# EAGLE library part TPIC6C595 (library innove-ic-logic)
Power Logic 8-bit SHIFT REGISTER, output latch; Open drain outputs
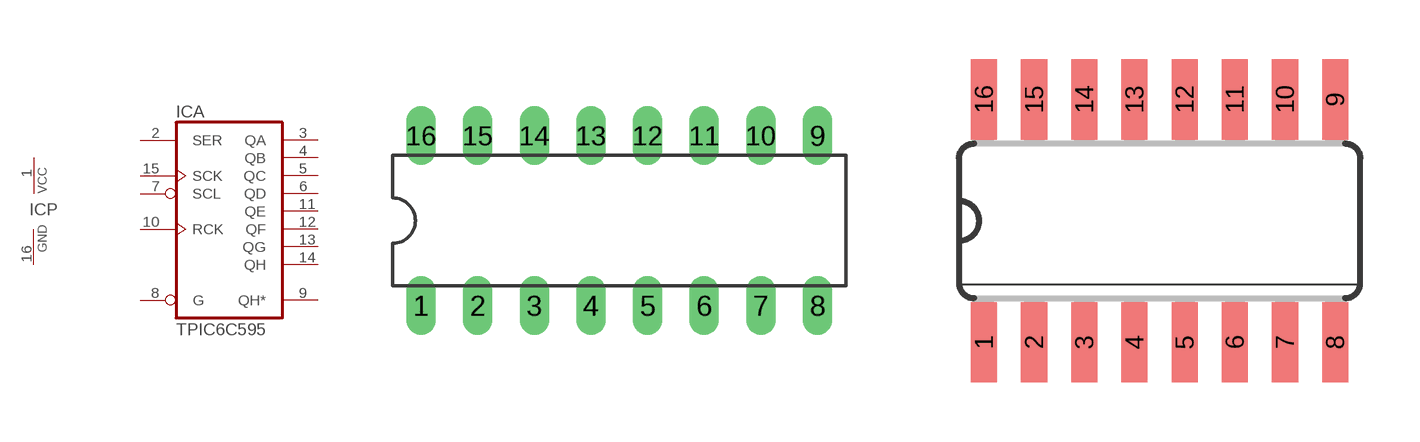
[diagram p1: symbol with the pads of DIL16; footprints DIL16, SO16]

Designator prefix IC; gates A=74595 P=PWRN

## TPIC6C595HCN, TPIC6C595HCTN, TPIC6C595LSN  [DIL16]
1  P:VCC  pwr
2  A:SER  in
3  A:QA  hiz
4  A:QB  hiz
5  A:QC  hiz
6  A:QD  hiz
7  A:SCL  in
8  A:G  in
9  A:QH*  hiz
10  A:RCK  in
11  A:QE  hiz
12  A:QF  hiz
13  A:QG  hiz
14  A:QH  hiz
15  A:SCK  in
16  P:GND  pwr

## TPIC6C595HCD, TPIC6C595HCTD  [SO16]
Pads as for DIL16

## Footprint DIL16 (pad centres in mm)
Dual In Line Package
drill 0.813 long: 1 -8.89,-3.81; 2 -6.35,-3.81; 3 -3.81,-3.81; 4 -1.27,-3.81; 5 1.27,-3.81; 6 3.81,-3.81; 7 6.35,-3.81; 8 8.89,-3.81; 9 8.89,3.81; 10 6.35,3.81; 11 3.81,3.81; 12 1.27,3.81; 13 -1.27,3.81; 14 -3.81,3.81; 15 -6.35,3.81; 16 -8.89,3.81

## Footprint SO16 (pad centres in mm)
Small Outline package 150 mil
smd 0.66 x 2.032: 1 -4.445,-3.073; 2 -3.175,-3.073; 3 -1.905,-3.073; 4 -0.635,-3.073; 5 0.635,-3.073; 6 1.905,-3.073; 7 3.175,-3.073; 8 4.445,-3.073; 9 4.445,3.073; 10 3.175,3.073; 11 1.905,3.073; 12 0.635,3.073; 13 -0.635,3.073; 14 -1.905,3.073; 15 -3.175,3.073; 16 -4.445,3.073